# Altium footprint library fp_0603.PcbLib: 1 footprints
Each footprint in its own frame and in the unit in brackets; x right, y up, seen from the top. Pads: shape width x height; smd on the part's side, far side on the other; paste and mask are expansions set on the pad; w line width, h text height; cw(c..) or ccw(c..) is an arc to the next point about the centre after c.
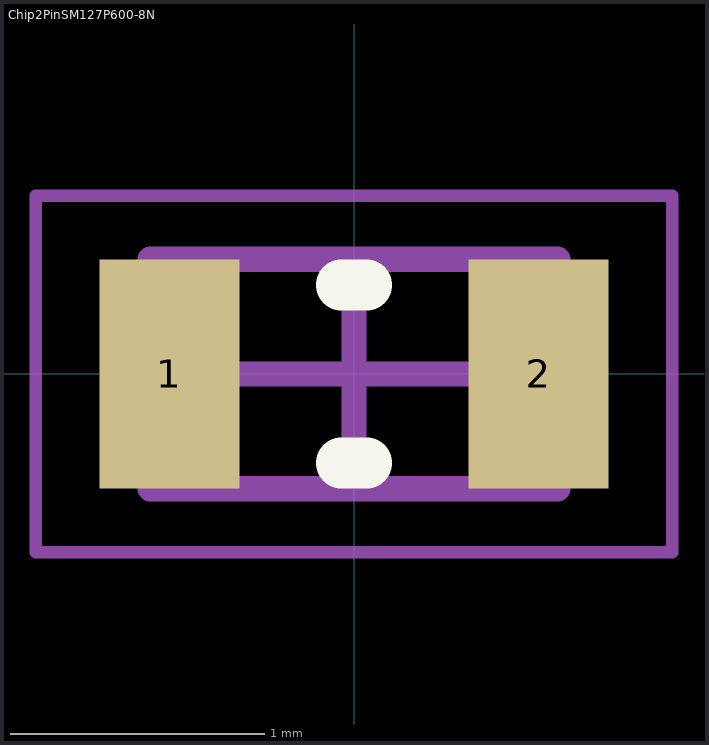
[diagram p0: the footprint, top view; thin cyan lines are the x and y axes]

## Chip2PinSM127P600-8N [mm]
height 0.5
pads (2):
  rect 0.55x0.9 smd: 1(-0.725,0) 2(0.725,0)
Top Overlay:
  lines w0.2: -0.05,-0.35 0.05,-0.35 ; -0.05,0.35 0.05,0.35
Mechanical 13:
  lines w0.1: -0.8,-0.45 0.8,-0.45 0.8,0.45 -0.8,0.45 -0.8,-0.45
Mechanical 15:
  lines w0.05: -1.25,-0.7 1.25,-0.7 1.25,0.7 -1.25,0.7 -1.25,-0.7
  lines w0.1: -0.45,0 0.45,0 ; 0,-0.45 0,0.45
3D body: height 0.5, standoff 0, extent 0.5,-0.45 0.8,0.45
3D body: height 0.5, standoff 0, extent -0.8,-0.45 -0.5,0.45
3D body: height 0.5, standoff 0, extent -0.5,-0.45 0.5,0.45